# Altium integrated library ARM-JTAG-SWD.IntLib: 1 symbol
Pins are listed as number, name and electrical type; pins without a type are passive.

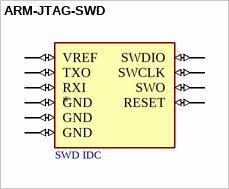
[diagram p0: symbol ARM-JTAG-SWD]

## ARM-JTAG-SWD
designator ?
DEBUG ADAPTER FOR ARM-USB-TINY-H; MF: Olimex LTD; MP: ARM-JTAG-SWD; Package: None; Value: *; Availability: Unavailable; SnapEDA_Link: https://www.snapeda.com/parts/ARM-JTAG-SWD/Olimex%20LTD/view-part/378435/?ref=snap; Price: None
footprint ARM-JTAG-10-SWD-IDC
pins: GND@1 GND (io), GND@2 GND (io), GND@3 GND (io), RESET (io), RXI (io), SWCLK (io), SWDIO (io), SWO (io), TXO (io), VREF (io)
text: SWD IDC